# Altium schematic symbol library MOSFET-2GN.Schlib: 1 symbol
Pins are listed as number, name and electrical type; pins without a type are passive.

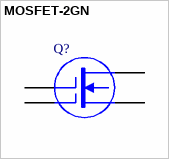
[diagram p0: symbol MOSFET-2GN]

## MOSFET-2GN
designator Q?
Two-Gate, N-Channel MOSFET
pins: 1 G1, 2 G2, 3 D, 4 S